# EAGLE library part A68-A31 (library switch)
SLIDING SWITCH Siemens, distributor Buerklin, 11G766
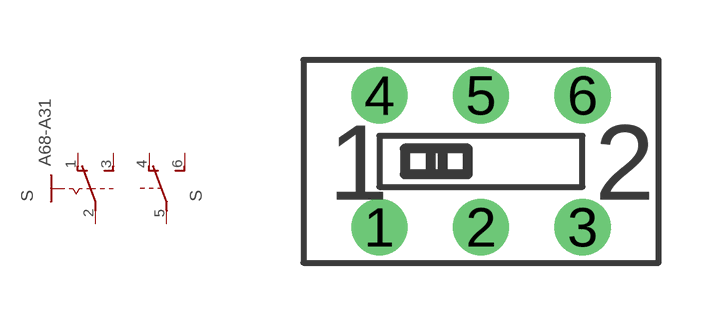
[diagram p0: symbol with the pads of A68-A31; footprint A68-A31]

Designator prefix S; gates B=U2 A=SIS-

## A68-A31  [A68-A31]
1  A:O  pas
2  A:P  pas
3  A:S  pas
4  B:O  pas
5  B:P  pas
6  B:S  pas

## Footprint A68-A31 (pad centres in mm)
SLIDING SWITCH https://www.digikey.com/products/en?keywords=401-2001-ND
drill 0.9: 1 -2.54,-1.651; 2 0,-1.651; 3 2.54,-1.651; 4 -2.54,1.651; 5 0,1.651; 6 2.54,1.651